# EAGLE library part 2-1761603-3 (library TYCO2)
HEADER, STRAIGHT
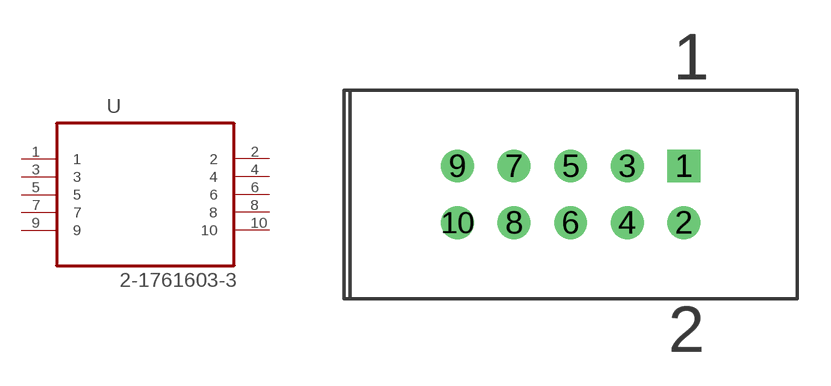
[diagram p0: symbol with the pads of TYCO_2-1761603-3; footprint TYCO_2-1761603-3]

Designator prefix U

## 2-1761603-3 (MPN: 2-1761603-3; OC_FARNELL: 1298785; OC_NEWARK: 42K6787; PACKAGE: 10-Way Male Header; SUPPLIER: TycoElectronics)  [TYCO_2-1761603-3]
1  1  pas
2  2  pas
3  3  pas
4  4  pas
5  5  pas
6  6  pas
7  7  pas
8  8  pas
9  9  pas
10  10  pas

## Footprint TYCO_2-1761603-3 (pad centres in mm)
drill 0.965 square: 1 0,2.54
drill 0.965: 2 0,0; 3 -2.54,2.54; 4 -2.54,0; 5 -5.08,2.54; 6 -5.08,0; 7 -7.62,2.54; 8 -7.62,0; 9 -10.16,2.54; 10 -10.16,0